# EAGLE library part SAMTEC_TW_2X6_WITH_STABLE (library nathans-custom-parts)
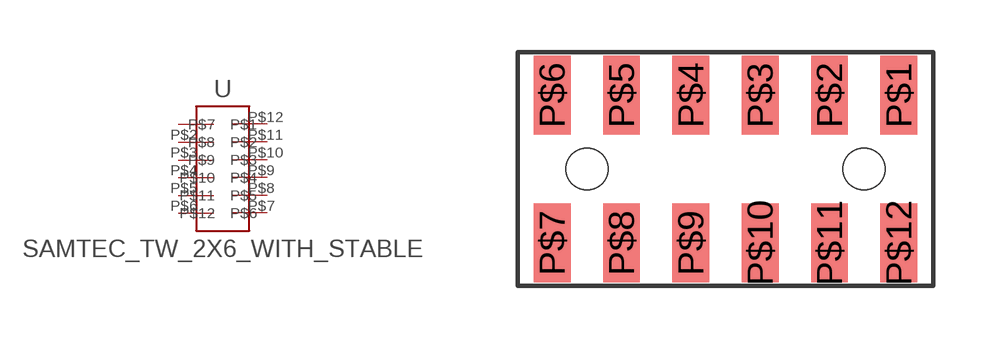
[diagram p7: symbol with the pads of SAMTEC_TW_2X6; footprint SAMTEC_TW_2X6]

Designator prefix -

## SAMTEC_TW_2X6_WITH_STABLE  [SAMTEC_TW_2X6]
P$1  P$1
P$2  P$2
P$3  P$3
P$4  P$4
P$5  P$5
P$6  P$6
P$7  P$12
P$8  P$11
P$9  P$10
P$10  P$9
P$11  P$8
P$12  P$7

## SAMTEC_TW_2X6_WITH_STABLESMD  [SAMTEC_TW_2X6]

## Footprint SAMTEC_TW_2X6 (pad centres in mm)
smd 1.067 x 2.286: P$1 5.08,2.133; P$2 3.08,2.133; P$3 1.08,2.133; P$4 -0.92,2.133; P$5 -2.92,2.133; P$6 -4.92,2.133; P$7 -4.92,-2.133; P$8 -2.92,-2.133; P$9 -0.92,-2.133; P$10 1.08,-2.133; P$11 3.08,-2.133; P$12 5.08,-2.133
hole 1.2 at 4.08,0
hole 1.2 at -3.92,0